# Altium footprint library TACTILE_SWITCH_TYPE2.PcbLib: 1 footprints
Each footprint in its own frame and in the unit in brackets; x right, y up, seen from the top. Pads: shape width x height; smd on the part's side, far side on the other; paste and mask are expansions set on the pad; w line width, h text height; cw(c..) or ccw(c..) is an arc to the next point about the centre after c.
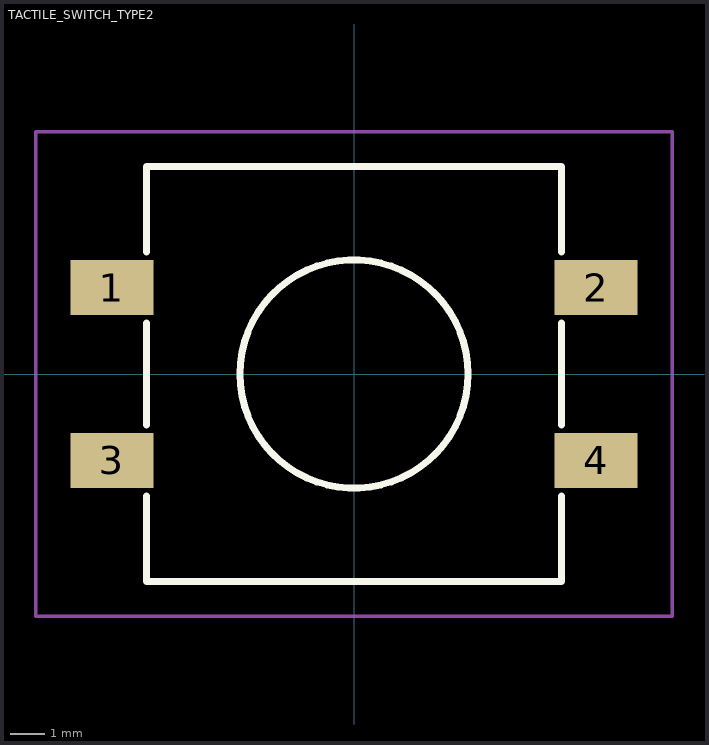
[diagram p0: the footprint, top view; thin cyan lines are the x and y axes]

## TACTILE_SWITCH_TYPE2 [mm]
pads (4):
  rect 2.4x1.6 smd: 1(-7,2.5) 2(7,2.5) 3(-7,-2.5) 4(7,-2.5)
Top Overlay:
  circle w0.2: c0,0 r3.3
  lines w0.2: -6,-3.525 -6,-6 6,-6 6,-3.525 ; -6,-1.475 -6,1.475 ; -6,3.525 -6,6 6,6 6,3.525 ; 6,-1.475 6,1.475
Top Courtyard:
  lines w0.1: -9.2,-7 -6,-7 9.2,-7 9.2,-1.725 9.2,7 6,7 -9.2,7 -9.2,-7
3D body "User Library-Button B3FS-4002P.STEP": height 4.4, standoff 0, extent -7.5,-6 7.5,6